# Altium footprint library SHDR6W87P0X254_1X6_1509X635X1105P.PcbLib: 1 footprints
Each footprint in its own frame and in the unit in brackets; x right, y up, seen from the top. Pads: shape width x height; smd on the part's side, far side on the other; paste and mask are expansions set on the pad; w line width, h text height; cw(c..) or ccw(c..) is an arc to the next point about the centre after c.
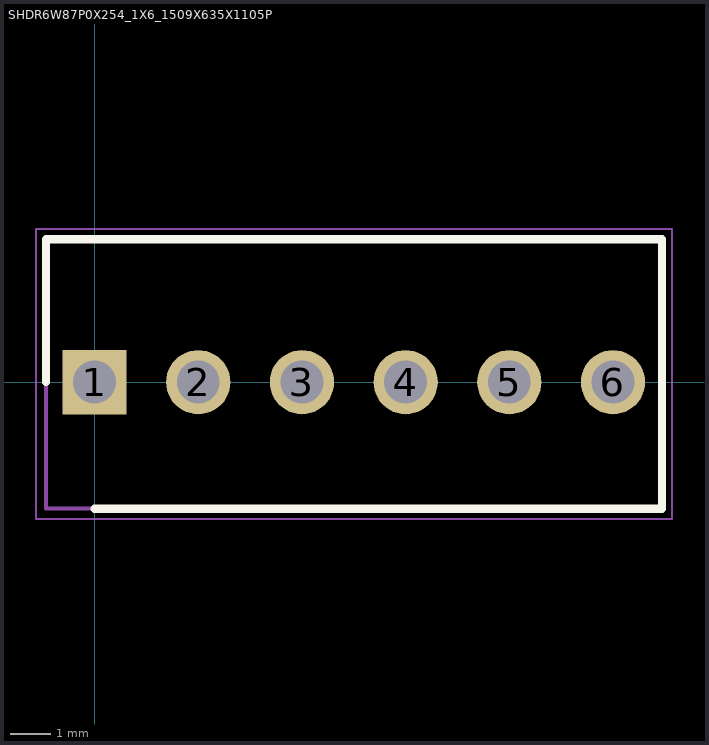
[diagram p0: the footprint, top view; thin cyan lines are the x and y axes]

## SHDR6W87P0X254_1X6_1509X635X1105P [mm]
pads (6):
  rect 1.575x1.575 / inner round 1.575 / far side rect 1.575x1.575 hole 1.05: 1(0,0)
  round 1.575 hole 1.05: 2(2.54,0) 3(5.08,0) 4(7.62,0) 5(10.16,0) 6(12.7,0)
Top Overlay:
  lines w0.2: -1.19,0 -1.19,3.5 13.9,3.5 13.9,-3.1 0,-3.1
Mechanical 15:
  lines w0.1: -1.19,-3.1 -1.19,3.5 13.9,3.5 13.9,-3.1 -1.19,-3.1
Mechanical 20:
  lines w0.05: -1.44,-3.35 -1.44,3.75 14.15,3.75 14.15,-3.35 -1.44,-3.35